# EAGLE library part PIC12F529T39A (library microchip_pic12f)
Microcontroller with integrated RF transmitter http://www.microchip.com/wwwproducts/Devices.aspx?product=PIC12F529T39A Properties Parameter Name Value Data Rate Kbps 100 Freq. Range 310, 433, 868, 915 MHz Output Power dBM 10 ICSP Yes Programmable Memory Bytes 2304 Modulation FSK/OOK Digital Timer 1 Op. Voltage (V) 2.0 to 3.7 IO Pins 6 Watch Dog Timer 1 Programmable Memory Words 1536 Oscillator Max Speed 8 Features Special Microcontroller Features: 8 MHz Precision Internal Oscillator: Factory calibrated to ±1% In-Circuit Serial Programming™ (ICSP™) Power-on Reset (POR) Device Reset Timer (DRT) Watchdog Timer (WDT) with Dedicated On-Chip RC Oscillator for Reliable Operation Programmable Code Protection Multiplexed MCLR Input Pin Internal Weak Pull-ups on I/O Pins Power-Saving Sleep mode Wake-up from Sleep on Pin Change Selectable Oscillator Options: INTRC: 4 MHz or 8 MHz precision internal RC oscillator EXTRC: External low-cost RC oscillator XT: Standard crystal/resonator LP: Power-saving, low-frequency crystal RF Transmitter: Fully Integrated Transmitter FSK Operation up to 100 kbps OOK Operation up to 10 kbps Frequency-Agile Operation in 310, 433, 868 and 915 MHz Bands Configurable Output Power: +10 dBm, 0 dBm Low-Power Features/CMOS Technology: Standby Current: 225 nA @ 2.0V, RF Sleep, typical Operating Current: 175 µA @ 4 MHz, 2.0V, RF Sleep, typical 9.17 mA @ 4 MHz, 2.0V, RF on at +0 dBm, typical 15.17 mA @ 4 MHz, 2.0V, RF on at +10 dBm, typical Library from www.mikroelektroniikka.fi/lbr
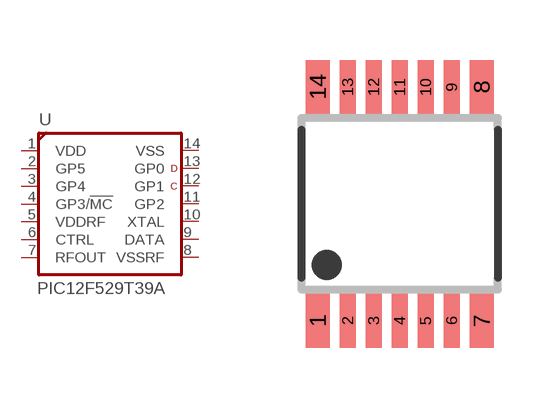
[diagram p19: symbol with the pads of TSSOP14-ST; footprint TSSOP14-ST]

Designator prefix U

## PIC12F529T39A/ST  [TSSOP14-ST]
1  VDD  pas
2  GP5
3  GP4
4  GP3/!MC!
5  VDDRF
6  CTRL
7  RFOUT
8  VSSRF
9  DATA
10  XTAL
11  GP2
12  GP1
13  GP0
14  VSS  pas

## Footprint TSSOP14-ST (pad centres in mm)
TSSOP14 (ST) 14-Lead plastic thin shrink small outline - 4.4 mm body
smd 0.6 x 1.35: 1 -2.05,-2.925; 7 2.05,-2.925; 8 2.05,2.925; 14 -2.05,2.925
smd 0.4 x 1.35: 2 -1.3,-2.925; 3 -0.65,-2.925; 4 0,-2.925; 5 0.65,-2.925; 6 1.3,-2.925; 9 1.3,2.925; 10 0.65,2.925; 11 0,2.925; 12 -0.65,2.925; 13 -1.3,2.925